# Altium footprint library descret_pcb.PcbLib: 152 footprints (part 4 of 10)
Each footprint in its own frame and in the unit in brackets; x right, y up, seen from the top. Pads: shape width x height; smd on the part's side, far side on the other; paste and mask are expansions set on the pad; w line width, h text height; cw(c..) or ccw(c..) is an arc to the next point about the centre after c.
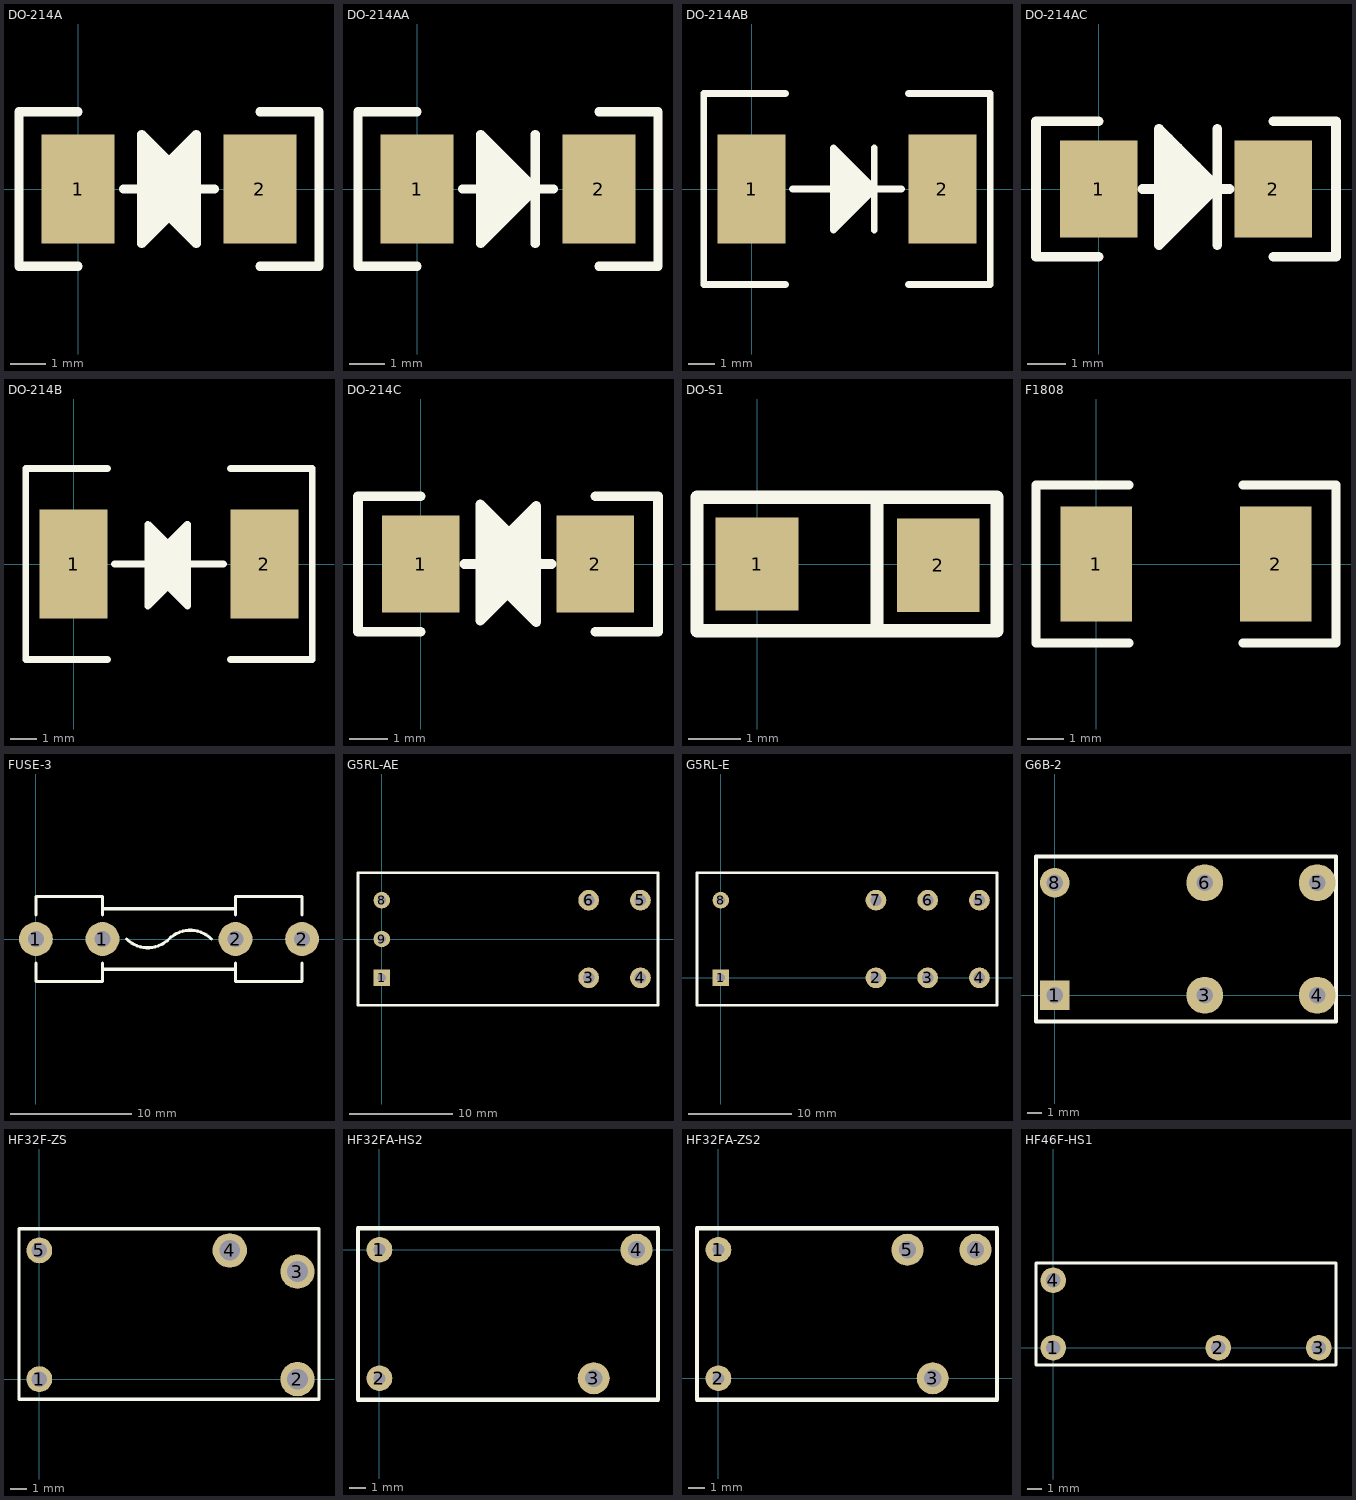
[diagram p3: the footprints below, top view; thin cyan lines are the x and y axes]

## DO-214A [mil]
pads (2):
  rect 80x120 smd: 1(0,0) 2(200,0)
TopOverlay:
  lines w10: 0,-85 -65,-85 -65,85 0,85 ; 50,0 150,0 ; 80,-50 80,50 ; 82.16,-12.16 82.16,12.16 ; 89.56,-39.56 89.56,40.44 ; 91.29,-21.29 91.29,18.71 ; 99.2,-29.2 99.2,30.8 ; 100.8,-30.8 100.8,29.2 ; 108.71,-18.71 108.71,21.29 ; 110.44,-40.44 110.44,39.56 ; 117.84,-12.16 117.84,12.16 ; 120,-50 120,50 ; 200,-85 265,-85 265,85 200,85 ; 70,-60 70,60 ; 70,-60 130,0 70,60 ; 70,-60 70,60 ; 130,-60 130,60 ; 130,-60 130,60 ; 130,-60 70,0 130,60

## DO-214AA [mil]
pads (2):
  rect 80x120 smd: 1(0,0) 2(200,0)
TopOverlay:
  lines w10: 0,-85 -65,-85 -65,85 0,85 ; 50,0 150,0 ; 80,-50 80,50 ; 89.56,-39.56 89.56,40.44 ; 99.2,-29.2 99.2,30.8 ; 108.71,-18.71 108.71,21.29 ; 117.84,-12.16 117.84,12.16 ; 130,-60 130,60 ; 200,-85 265,-85 265,85 200,85 ; 70,-60 130,0 70,60 70,-60
3D body "User Library-DO-214AA SMB.STEP": height 90.75, standoff 0, extent -7.87,-70.87 204.72,70.87

## DO-214AB [mil]
pads (2):
  rect 100x160 smd: 1(0,0) 2(280,0)
TopOverlay:
  lines w10: 50,-140 -70,-140 -70,140 50,140 ; 60,0 220,0 ; 130,-50 130,50 ; 139.56,-39.56 139.56,40.44 ; 149.2,-29.2 149.2,30.8 ; 158.71,-18.71 158.71,21.29 ; 167.84,-12.16 167.84,12.16 ; 180,-60 180,60 ; 230,-140 350,-140 350,140 230,140 ; 120,-60 180,0 120,60 120,-60
3D body "User Library-DO-214AB SMC.STEP": height 94.69, standoff 3.94, extent -18.69,-116.14 294.3,116.14

## DO-214AC [mil]
pads (2):
  rect 80x100 smd: 1(0,0) 2(180,0)
TopOverlay:
  lines w10: 0,-70 -65,-70 -65,70 0,70 ; 45,0 135,0 ; 72.16,-47.84 72.16,52.16 ; 81.71,-37.4 81.71,42.6 ; 91.36,-27.04 91.36,32.96 ; 100.87,-16.56 100.87,23.44 ; 110,-10 110,14.31 ; 122.16,-57.84 122.16,62.16 ; 180,-70 245,-70 245,70 180,70 ; 62.16,-57.84 62.16,62.16 122.16,2.16 62.16,-57.84
3D body "User Library-DO-214AC SMA.STEP": height 94.69, standoff 0, extent -11.8,-51.18 192.92,51.18

## DO-214B [mil]
pads (2):
  rect 100x160 smd: 1(0,0) 2(280,0)
TopOverlay:
  lines w10: 50,-140 -70,-140 -70,140 50,140 ; 60,0 220,0 ; 118.89,-51.64 118.89,48.36 ; 119.15,-13.8 119.15,10.52 ; 128.28,-22.93 128.28,17.07 ; 128.44,-41.2 128.44,38.8 ; 137.8,-32.44 137.8,27.56 ; 138.09,-30.84 138.09,29.16 ; 147.44,-42.08 147.44,37.92 ; 147.6,-20.36 147.6,19.64 ; 156.73,-13.8 156.73,10.52 ; 157,-51.64 157,48.36 ; 230,-140 350,-140 350,140 230,140 ; 107,-1.64 167,58.36 167,-61.64 107,-1.64 ; 108.89,-61.64 168.89,-1.64 108.89,58.36 108.89,-61.64

## DO-214C [mil]
pads (2):
  rect 80x100 smd: 1(0,0) 2(180,0)
TopOverlay:
  lines w10: 0,-70 -65,-70 -65,70 0,70 ; 45,0 135,0 ; 71.21,-12.16 71.21,12.16 ; 71.35,-48.36 71.35,51.64 ; 80.34,-21.29 80.34,18.71 ; 80.91,-37.92 80.91,42.08 ; 89.86,-30.8 89.86,29.2 ; 90.55,-27.56 90.55,32.44 ; 99.5,-40.44 99.5,39.56 ; 100.07,-17.07 100.07,22.93 ; 109.06,-50 109.06,50 ; 109.19,-10.52 109.19,13.8 ; 180,-70 245,-70 245,70 180,70 ; 59.06,0 119.06,-60 119.06,60 59.06,0 ; 61.35,-58.36 121.35,1.64 61.35,61.64 61.35,-58.36

## DO-S1 [mil]
pads (2):
  rect 62x70 smd: 1(0,0) 2(136,-1)
TopOverlay:
  lines w10: 90,-50 90,50 ; -45,-50 180,-50 180,50 -45,50 -45,-50
3D body "User Library-MiniMelf-2.STEP": height 62.99, standoff 0, extent -4.73,-31.43 140.94,31.42

## F1808 [mm]
pads (2):
  rect 1.96x3.15 smd: 1(0,0) 2(4.9,0)
TopOverlay:
  lines w0.254: 0.889,-2.159 -1.651,-2.159 -1.651,2.159 0.889,2.159 ; 4.011,-2.159 6.551,-2.159 6.551,2.159 4.011,2.159

## FUSE-3 [mm]
pads (4):
  round 2.8 hole 1.3: 1(0,0) 1(5.5,0) 2(16.5,0) 2(22,0)
TopOverlay:
  lines w0.254: 0,-2 0,-3.5 5.5,-3.5 5.5,-2 ; 0,2 0,3.5 5.5,3.5 5.5,2 ; 5.5,-2.5 16.5,-2.5 ; 5.5,2.5 16.5,2.5 ; 7.5,0 ccw(c9.25,1.75) 11,0 cw(c12.75,-1.75) 14.5,0 ; 16.5,-2 16.5,-3.5 22,-3.5 22,-2 ; 16.5,2 16.5,3.5 22,3.5 22,2

## G5RL-AE [mm]
pads (7):
  rect 1.6x1.6 hole 0.8: 1(0,-3.75)
  round 2 hole 1.1: 3(20,-3.75) 4(25,-3.75) 5(25,3.75) 6(20,3.75)
  round 1.6 hole 0.8: 8(0,3.75) 9(0,0)
TopOverlay:
  lines w0.254: -2.3,-6.4 -2.3,6.4 26.7,6.4 26.7,-6.4 -2.3,-6.4

## G5RL-E [mm]
pads (8):
  rect 1.6x1.6 hole 0.8: 1(0,0)
  round 2 hole 1.1: 2(15,0) 3(20,0) 4(25,0) 5(25,7.5) 6(20,7.5) 7(15,7.5)
  round 1.6 hole 0.8: 8(0,7.5)
TopOverlay:
  lines w0.254: -2.3,-2.65 26.7,-2.65 26.7,10.15 -2.3,10.15 -2.3,-2.65

## G6B-2 [mm]
pads (6):
  rect 2x2 hole 1.1: 1(0,0)
  round 2.5 hole 1.1: 3(10.16,0) 4(17.78,0) 5(17.78,7.62) 6(10.16,7.62)
  round 2 hole 1.1: 8(0,7.62)
TopOverlay:
  lines w0.254: -1.27,-1.778 19.05,-1.778 19.05,9.398 -1.27,9.398 -1.27,-1.778

## HF32F-ZS [mil]
height 480
pads (5):
  round 60 hole 36: 1(0,0) 5(0,299.21)
  round 80 hole 48: 2(600,0) 3(600,250) 4(442.52,299.21)
TopOverlay:
  lines w8: -47.24,-47.24 650,-47.24 650,350 -47.24,350 -47.24,-47.24

## HF32FA-HS2 [mil]
pads (4):
  round 60 hole 28: 1(0,0) 2(0,-300)
  round 75 hole 40: 3(500,-300) 4(600,0)
TopOverlay:
  lines w10: -50,-350 650,-350 650,50 -50,50 -50,-350

## HF32FA-ZS2 [mil]
pads (5):
  round 60 hole 28: 1(0,300) 2(0,0)
  round 75 hole 40: 3(500,0) 4(600,300) 5(440.94,300)
TopOverlay:
  lines w10: -50,-50 650,-50 650,350 -50,350 -50,-50

## HF46F-HS1 [mil]
height 400
pads (4):
  round 70 hole 40: 1(0,0) 2(452.76,0) 3(728.35,0) 4(0,185.04)
TopOverlay:
  lines w8: -43.31,232.28 775.59,232.28 ; 775.59,232.28 775.59,-47.24 -47.24,-47.24 -47.24,232.28 775.59,232.28